# EAGLE library part 64900829522 (library Wuerth_Elektronik_eiCan_07_Mini_Power_Connectors)
WR-MPC4-4.20mm Male Dual Row Angled Header,8 pins
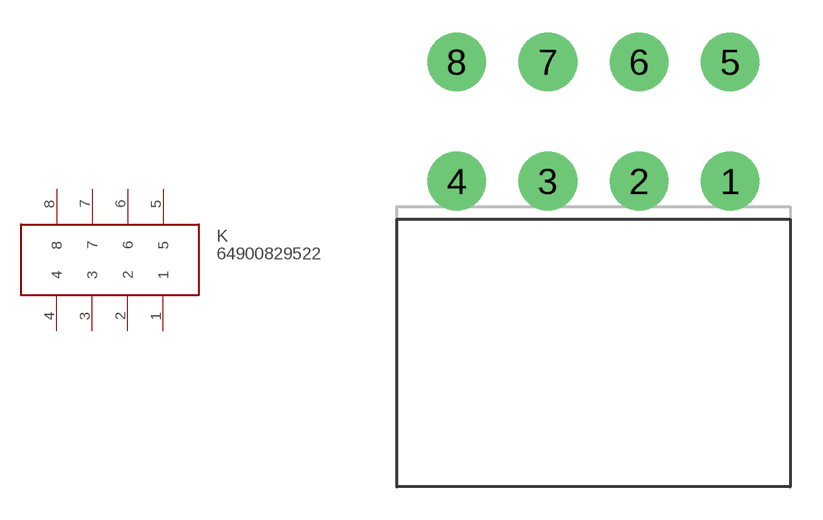
[diagram p1: symbol with the pads of 64900829522; footprint 64900829522]

Designator prefix K

## 64900829522  [64900829522]
1  1
2  2
3  3
4  4
5  5
6  6
7  7
8  8

## Footprint 64900829522 (pad centres in mm)
WR-MPC4-4.20mm Male Dual Row Angled Header,8 pins
drill 1.8 round: 1 6.285,-2.75; 2 2.085,-2.75; 3 -2.115,-2.75; 4 -6.315,-2.75; 5 6.285,2.75; 6 2.085,2.75; 7 -2.115,2.75; 8 -6.315,2.75